# EAGLE library part XENPAK1 (library xenpakMSA)
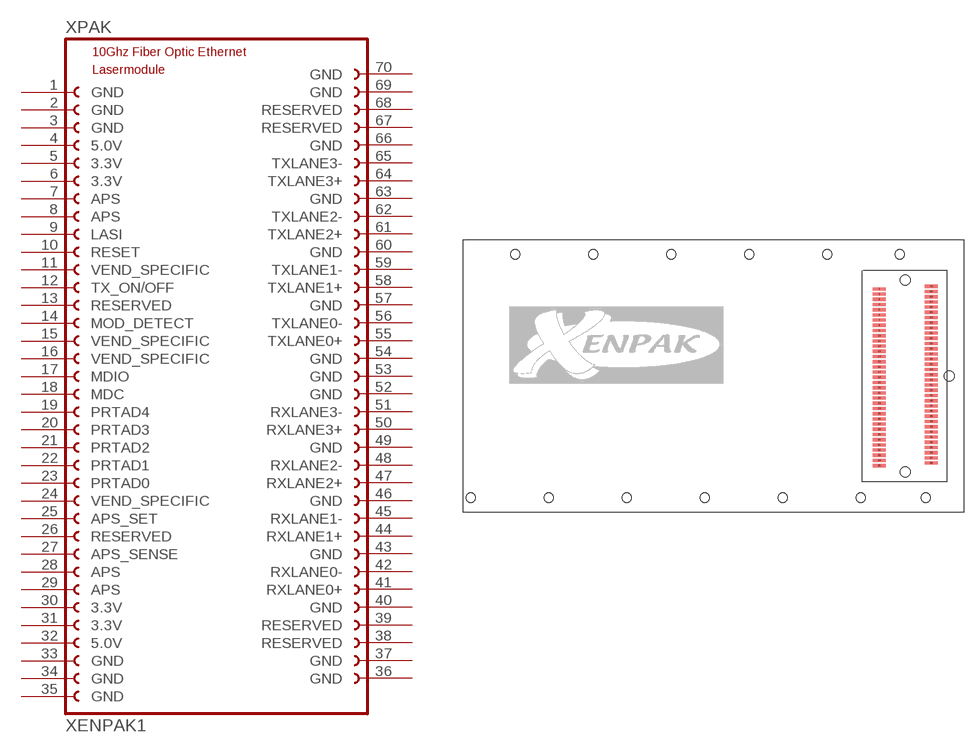
[diagram p0: symbol with the pads of XENPAK; footprint XENPAK]

Designator prefix XPAK

## XENPAK1/X2  [XENPAK]
1  GND  pwr
2  GND  pwr
3  GND  pwr
4  5.0V  pwr
5  3.3V  pwr
6  3.3V  pwr
7  APS  pwr
8  APS  pwr
9  LASI  pas
10  RESET  in
11  VEND_SPECIFIC  nc
12  TX_ON/OFF  in
13  RESERVED  nc
14  MOD_DETECT  out
15  VEND_SPECIFIC  nc
16  VEND_SPECIFIC  nc
17  MDIO
18  MDC  in
19  PRTAD4  in
20  PRTAD3  in
21  PRTAD2  in
22  PRTAD1  in
23  PRTAD0  in
24  VEND_SPECIFIC  nc
25  APS_SET  in
26  RESERVED  nc
27  APS_SENSE  in
28  APS  pwr
29  APS  pwr
30  3.3V  pwr
31  3.3V  pwr
32  5.0V  pwr
33  GND  pwr
34  GND  pwr
35  GND  pwr
36  GND  pwr
37  GND  pwr
38  RESERVED  nc
39  RESERVED  nc
40  GND  pwr
41  RXLANE0+  out
42  RXLANE0-  out
43  GND  pwr
44  RXLANE1+  out
45  RXLANE1-  out
46  GND  pwr
47  RXLANE2+  out
48  RXLANE2-  out
49  GND  pwr
50  RXLANE3+  out
51  RXLANE3-  out
52  GND  pwr
53  GND  pwr
54  GND  pwr
55  TXLANE0+  in
56  TXLANE0-  in
57  GND  pwr
58  TXLANE1+  in
59  TXLANE1-  in
60  GND  pwr
61  TXLANE2+  in
62  TXLANE2-  in
63  GND  pwr
64  TXLANE3+  in
65  TXLANE3-  in
66  GND  pwr
67  RESERVED  nc
68  RESERVED  nc
69  GND  pwr
70  GND  pwr

## Footprint XENPAK (pad centres in mm)
smd 2 x 0.5: 1 -4,13.4; 2 -4,12.6; 3 -4,11.8; 4 -4,11; 5 -4,10.2; 6 -4,9.4; 7 -4,8.6; 8 -4,7.8; 9 -4,7; 10 -4,6.2; 11 -4,5.4; 12 -4,4.6; 13 -4,3.8; 14 -4,3; 15 -4,2.2; 16 -4,1.4; 17 -4,0.6; 18 -4,-0.2; 19 -4,-1; 20 -4,-1.8; 21 -4,-2.6; 22 -4,-3.4; 23 -4,-4.2; 24 -4,-5; 25 -4,-5.8; 26 -4,-6.6; 27 -4,-7.4; 28 -4,-8.2; 29 -4,-9; 30 -4,-9.8; 31 -4,-10.6; 32 -4,-11.4; 33 -4,-12.2; 34 -4,-13; 35 -4,-13.8; 36 4,-13.4; 37 4,-12.6; 38 4,-11.8; 39 4,-11; 40 4,-10.2; 41 4,-9.4; 42 4,-8.6; 43 4,-7.8; 44 4,-7; 45 4,-6.2; 46 4,-5.4; 47 4,-4.6; 48 4,-3.8; 49 4,-3; 50 4,-2.2; 51 4,-1.4; 52 4,-0.6; 53 4,0.2; 54 4,1; 55 4,1.8; 56 4,2.6; 57 4,3.4; 58 4,4.2; 59 4,5; 60 4,5.8; 61 4,6.6; 62 4,7.4; 63 4,8.2; 64 4,9; 65 4,9.8; 66 4,10.6; 67 4,11.4; 68 4,12.2; 69 4,13; 70 4,13.8
hole 1.55 at 0,14.8
hole 1.55 at 0,-14.8
hole 1.55 at 6.8,0
hole 1.45 at -0.85,18.75
hole 1.45 at -12,18.75
hole 1.45 at -24,18.75
hole 1.45 at -36,18.75
hole 1.45 at -48,18.75
hole 1.45 at -60,18.75
hole 1.45 at 3.15,-18.75
hole 1.45 at -6.85,-18.75
hole 1.45 at -18.85,-18.75
hole 1.45 at -30.85,-18.75
hole 1.45 at -42.85,-18.75
hole 1.45 at -54.85,-18.75
hole 1.45 at -66.85,-18.75